# Altium footprint library TRANS_CSD17581Q3A.PcbLib: 1 footprints
Each footprint in its own frame and in the unit in brackets; x right, y up, seen from the top. Pads: shape width x height; smd on the part's side, far side on the other; paste and mask are expansions set on the pad; w line width, h text height; cw(c..) or ccw(c..) is an arc to the next point about the centre after c.
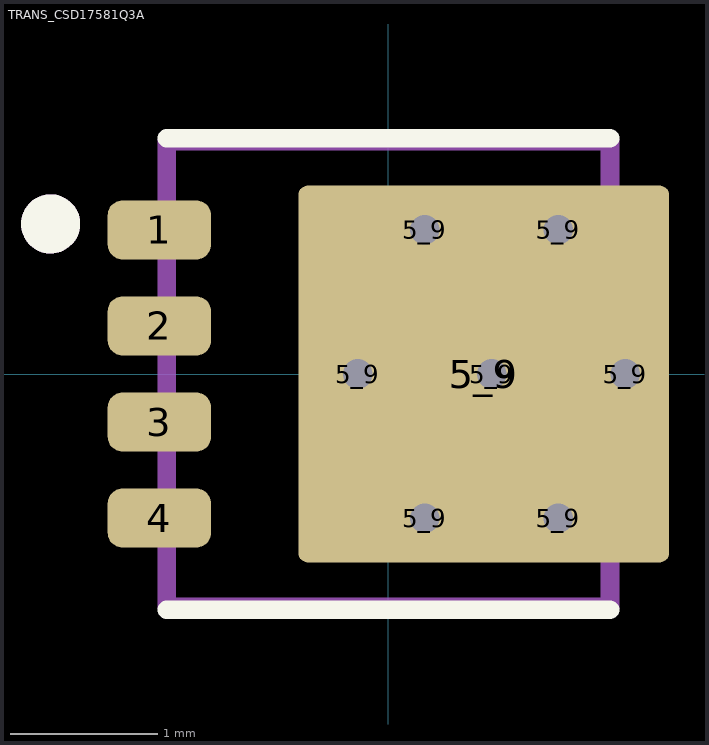
[diagram p0: the footprint, top view; thin cyan lines are the x and y axes]

## TRANS_CSD17581Q3A [mm]
height 0.9
pads (12):
  rrect50% 0.7x0.4 smd paste-1 mask+0: 1(-1.55,0.975) 2(-1.55,0.325) 3(-1.55,-0.325) 4(-1.55,-0.975)
  round 0.4 hole 0.2 mask+0: 5_9(-0.207,0) 5_9(0.245,-0.975) 5_9(0.245,0.975) 5_9(0.698,0) 5_9(1.15,-0.975) 5_9(1.15,0.975) 5_9(1.603,0)
  rrect5% 2.51x2.55 smd paste-2 mask+0: 5_9(0.645,0)
Top Overlay:
  circle w0.2: c-2.286,1.016 r0.1
  lines w0.127: -1.5,-1.595 1.5,-1.595 ; -1.5,1.595 1.5,1.595
Top Paste:
  drawing of 12 lines, arcs and shapes, not listed
Top Solder:
  drawing of 5 lines, arcs and shapes, not listed
Mechanical 13:
  circle w0.2: c-2.286,1.016 r0.1
  lines w0.127: -1.5,-1.575 -1.5,1.575 1.5,1.575 1.5,-1.575 -1.5,-1.575
3D body "step_temp.STEP": height 0.9, standoff 0, extent -1.65,-1.725 1.65,1.725